# Altium integrated library Sim800L_Module.IntLib: 1 symbol
Pins are listed as number, name and electrical type; pins without a type are passive.

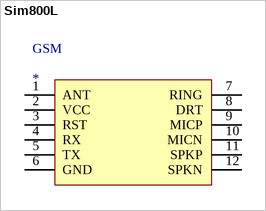
[diagram p0: symbol Sim800L]

## Sim800L
designator GSM
footprint Sim800L
pins: 1 ANT, 2 VCC, 3 RST, 4 RX, 5 TX, 6 GND, 7 RING, 8 DRT, 9 MICP, 10 MICN, 11 SPKP, 12 SPKN